# Altium schematic symbol library Schlib_lab10_var9.SchLib: 4 symbols
Pins are listed as number, name and electrical type; pins without a type are passive.

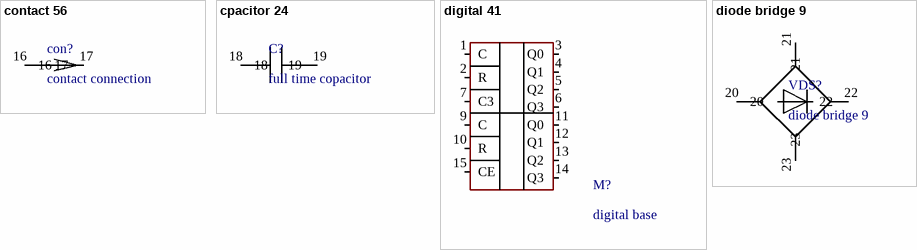
[diagram p0: symbols contact 56 to diode bridge 9]

## contact 56
designator con?, comment contact connection
connection contact
pins: 16, 17

## cpacitor 24
designator C?, comment full time copacitor
pins: 18, 19

## digital 41
designator M?, comment digital base
pins: 1 C, 2 R, 3 Q0, 4 Q1, 5 Q2, 6 Q3, 7 C3, 9 C, 10 R, 11 Q0, 12 Q1, 13 Q2, 14 Q3, 15 CE

## diode bridge 9
designator VDS?
pins: 20, 21, 22, 23